# EAGLE library part CD4050 (library zortness)
CD4050 Hex Converter Buffer DigiKey <http://www.digikey.com/product-detail/en/CD4050BDWR/296-14270-1-ND/528349> VSS: 3-18V VIN Max: 20V
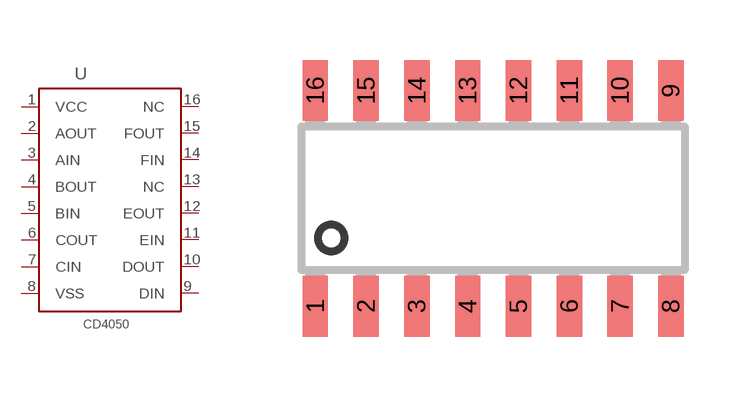
[diagram p11: symbol with the pads of SOIC16; footprint SOIC16]

Designator prefix -

## CD4050  [SOIC16]
1  VCC  pwr
2  AOUT  out
3  AIN  in
4  BOUT  out
5  BIN  in
6  COUT  out
7  CIN  in
8  VSS  pwr
9  DIN  in
10  DOUT  out
11  EIN  in
12  EOUT  out
13  NC  nc
14  FIN  in
15  FOUT  out
16  NC  nc

## Footprint SOIC16 (pad centres in mm)
SMALL OUTLINE INTEGRATED CIRCUIT 16-Pin (150-Mil) SOIC Source: http://www.cypress.com .. 38-12025_0P_V.pdf
smd 0.635 x 1.524: 1 -4.445,-2.695; 2 -3.175,-2.695; 3 -1.905,-2.695; 4 -0.635,-2.695; 5 0.635,-2.695; 6 1.905,-2.695; 7 3.175,-2.695; 8 4.445,-2.695; 9 4.445,2.695; 10 3.175,2.695; 11 1.905,2.695; 12 0.635,2.695; 13 -0.635,2.695; 14 -1.905,2.695; 15 -3.175,2.695; 16 -4.445,2.695